# Altium schematic symbol library Hall_Sensor.SchLib: 1 symbol
Pins are listed as number, name and electrical type; pins without a type are passive.

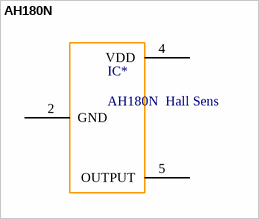
[diagram p0: symbol AH180N]

## AH180N
designator IC*, comment AH180N  Hall Sens
Hall Sensor AH180N
pins: 1 NC hidden, 2 GND, 3 NC hidden, 4 VDD, 5 OUTPUT